# Altium integrated library NSC LDO.IntLib: 1228 symbols (part 22 of 28)
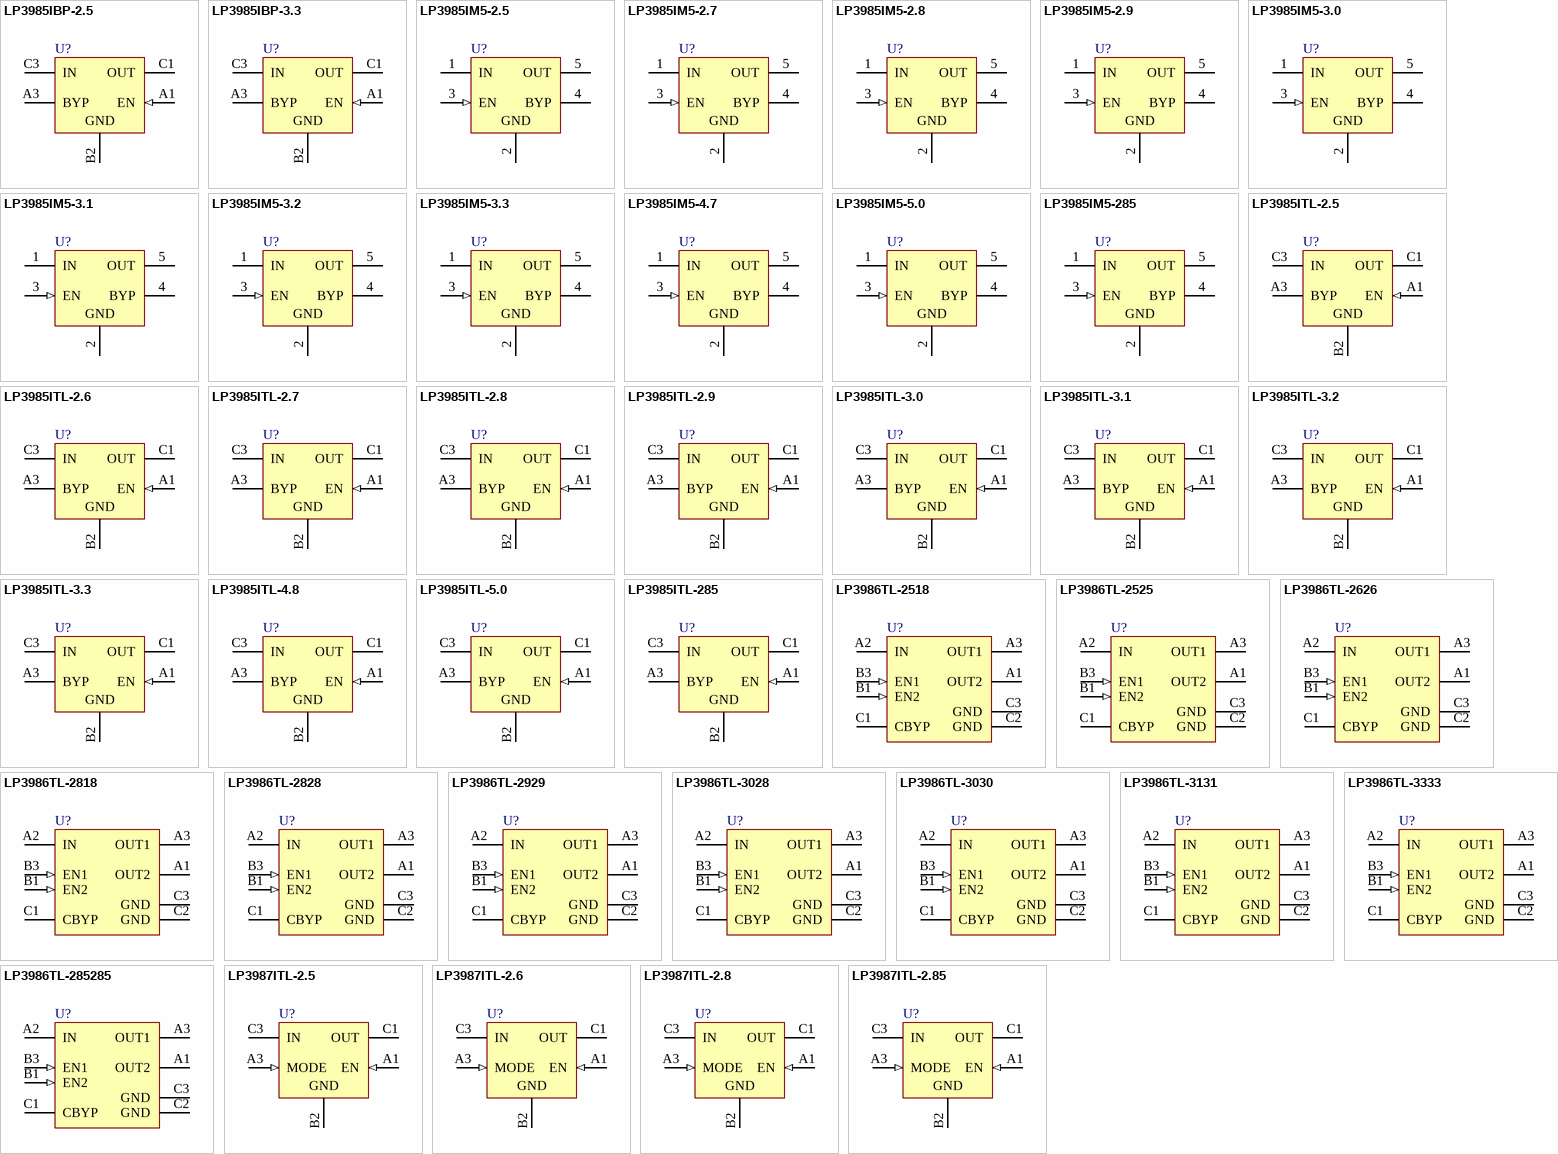
[diagram p51: symbols LP3985IBP-2.5 to LP3987ITL-2.85]

## LP3985ITL-2.9
designator U?
Micropower, 150mA Low-Noise Ultra Low-Dropout CMOS Voltage Regulator; PartNumber: LP3985ITL-2.9; Manufacturer: National Semiconductor; CompType: LDO IC; PackageTopMarking: XV*I 5; Published: 4-Dec-2008; DatasheetVersion: Aug-2005; PackageVersion: revC, Feb-2005; PackageReference: TLA05AEA; Publisher: Altium Limited; PackageDescription: Thin Micro SMD, 5 Bump (Large), 0.5mm Pitch; RoHS: Y; PinCount: 5; DigiKeyPartNumber: LP3985ITL-2.9CT-ND; ComponentLink1Description: LP3985 Datasheet; ComponentLink1URL: http://www.national.com/ds/LP/LP3985.pdf; ComponentLink2Description: LP3985 Web Page; ComponentLink2URL: http://www.national.com/pf/LP/LP3985.html; ComponentLink3Description: TLA05AEA Package Page; ComponentLink3URL: http://www.national.com/packaging/folders/tla05aea.html
footprint TLA05AEA (Micro SMD, 5-Leads, Body 1.45x1.01mm, Pitch 0.5mm, NSC Recommended)
pins: A1 EN (in), A3 BYP, B2 GND (power), C1 OUT (power), C3 IN (power)

## LP3985ITL-3.0
designator U?
Micropower, 150mA Low-Noise Ultra Low-Dropout CMOS Voltage Regulator; PartNumber: LP3985ITL-3.0; Manufacturer: National Semiconductor; CompType: LDO IC; PackageTopMarking: XV*I 5; Published: 4-Dec-2008; DatasheetVersion: Aug-2005; PackageVersion: revC, Feb-2005; PackageReference: TLA05AEA; Publisher: Altium Limited; PackageDescription: Thin Micro SMD, 5 Bump (Large), 0.5mm Pitch; RoHS: Y; PinCount: 5; DigiKeyPartNumber: LP3985ITL-3.0CT-ND; ComponentLink1Description: LP3985 Datasheet; ComponentLink1URL: http://www.national.com/ds/LP/LP3985.pdf; ComponentLink2Description: LP3985 Web Page; ComponentLink2URL: http://www.national.com/pf/LP/LP3985.html; ComponentLink3Description: TLA05AEA Package Page; ComponentLink3URL: http://www.national.com/packaging/folders/tla05aea.html
footprint TLA05AEA (Micro SMD, 5-Leads, Body 1.45x1.01mm, Pitch 0.5mm, NSC Recommended)
pins: A1 EN (in), A3 BYP, B2 GND (power), C1 OUT (power), C3 IN (power)

## LP3985ITL-3.1
designator U?
Micropower, 150mA Low-Noise Ultra Low-Dropout CMOS Voltage Regulator; PartNumber: LP3985ITL-3.1; Manufacturer: National Semiconductor; CompType: LDO IC; PackageTopMarking: XV*I 5; Published: 4-Dec-2008; DatasheetVersion: Aug-2005; PackageVersion: revC, Feb-2005; PackageReference: TLA05AEA; Publisher: Altium Limited; PackageDescription: Thin Micro SMD, 5 Bump (Large), 0.5mm Pitch; RoHS: Y; PinCount: 5; DigiKeyPartNumber: LP3985ITL-3.1CT-ND; ComponentLink1Description: LP3985 Datasheet; ComponentLink1URL: http://www.national.com/ds/LP/LP3985.pdf; ComponentLink2Description: LP3985 Web Page; ComponentLink2URL: http://www.national.com/pf/LP/LP3985.html; ComponentLink3Description: TLA05AEA Package Page; ComponentLink3URL: http://www.national.com/packaging/folders/tla05aea.html
footprint TLA05AEA (Micro SMD, 5-Leads, Body 1.45x1.01mm, Pitch 0.5mm, NSC Recommended)
pins: A1 EN (in), A3 BYP, B2 GND (power), C1 OUT (power), C3 IN (power)

## LP3985ITL-3.2
designator U?
Micropower, 150mA Low-Noise Ultra Low-Dropout CMOS Voltage Regulator; PartNumber: LP3985ITL-3.2; Manufacturer: National Semiconductor; CompType: LDO IC; PackageTopMarking: XV*I 5; Published: 4-Dec-2008; DatasheetVersion: Aug-2005; PackageVersion: revC, Feb-2005; PackageReference: TLA05AEA; Publisher: Altium Limited; PackageDescription: Thin Micro SMD, 5 Bump (Large), 0.5mm Pitch; RoHS: Y; PinCount: 5; DigiKeyPartNumber: LP3985ITL-3.2CT-ND; ComponentLink1Description: LP3985 Datasheet; ComponentLink1URL: http://www.national.com/ds/LP/LP3985.pdf; ComponentLink2Description: LP3985 Web Page; ComponentLink2URL: http://www.national.com/pf/LP/LP3985.html; ComponentLink3Description: TLA05AEA Package Page; ComponentLink3URL: http://www.national.com/packaging/folders/tla05aea.html
footprint TLA05AEA (Micro SMD, 5-Leads, Body 1.45x1.01mm, Pitch 0.5mm, NSC Recommended)
pins: A1 EN (in), A3 BYP, B2 GND (power), C1 OUT (power), C3 IN (power)

## LP3985ITL-3.3
designator U?
Micropower, 150mA Low-Noise Ultra Low-Dropout CMOS Voltage Regulator; PartNumber: LP3985ITL-3.3; Manufacturer: National Semiconductor; CompType: LDO IC; PackageTopMarking: XV*I 5; Published: 4-Dec-2008; DatasheetVersion: Aug-2005; PackageVersion: revC, Feb-2005; PackageReference: TLA05AEA; Publisher: Altium Limited; PackageDescription: Thin Micro SMD, 5 Bump (Large), 0.5mm Pitch; RoHS: Y; PinCount: 5; DigiKeyPartNumber: LP3985ITL-3.3CT-ND; ComponentLink1Description: LP3985 Datasheet; ComponentLink1URL: http://www.national.com/ds/LP/LP3985.pdf; ComponentLink2Description: LP3985 Web Page; ComponentLink2URL: http://www.national.com/pf/LP/LP3985.html; ComponentLink3Description: TLA05AEA Package Page; ComponentLink3URL: http://www.national.com/packaging/folders/tla05aea.html
footprint TLA05AEA (Micro SMD, 5-Leads, Body 1.45x1.01mm, Pitch 0.5mm, NSC Recommended)
pins: A1 EN (in), A3 BYP, B2 GND (power), C1 OUT (power), C3 IN (power)

## LP3985ITL-4.8
designator U?
Micropower, 150mA Low-Noise Ultra Low-Dropout CMOS Voltage Regulator; PartNumber: LP3985ITL-4.8; Manufacturer: National Semiconductor; CompType: LDO IC; PackageTopMarking: XV*I 5; Published: 4-Dec-2008; DatasheetVersion: Aug-2005; PackageVersion: revC, Feb-2005; PackageReference: TLA05AEA; Publisher: Altium Limited; PackageDescription: Thin Micro SMD, 5 Bump (Large), 0.5mm Pitch; RoHS: Y; PinCount: 5; DigiKeyPartNumber: LP3985ITL-4.8CT-ND; ComponentLink1Description: LP3985 Datasheet; ComponentLink1URL: http://www.national.com/ds/LP/LP3985.pdf; ComponentLink2Description: LP3985 Web Page; ComponentLink2URL: http://www.national.com/pf/LP/LP3985.html; ComponentLink3Description: TLA05AEA Package Page; ComponentLink3URL: http://www.national.com/packaging/folders/tla05aea.html
footprint TLA05AEA (Micro SMD, 5-Leads, Body 1.45x1.01mm, Pitch 0.5mm, NSC Recommended)
pins: A1 EN (in), A3 BYP, B2 GND (power), C1 OUT (power), C3 IN (power)

## LP3985ITL-5.0
designator U?
Micropower, 150mA Low-Noise Ultra Low-Dropout CMOS Voltage Regulator; PartNumber: LP3985ITL-5.0; Manufacturer: National Semiconductor; CompType: LDO IC; PackageTopMarking: XV*I 5; Published: 4-Dec-2008; DatasheetVersion: Aug-2005; PackageVersion: revC, Feb-2005; PackageReference: TLA05AEA; Publisher: Altium Limited; PackageDescription: Thin Micro SMD, 5 Bump (Large), 0.5mm Pitch; RoHS: O; PinCount: 5; DigiKeyPartNumber: LP3985ITL-5.0CT-ND; ComponentLink1Description: LP3985 Datasheet; ComponentLink1URL: http://www.national.com/ds/LP/LP3985.pdf; ComponentLink2Description: LP3985 Web Page; ComponentLink2URL: http://www.national.com/pf/LP/LP3985.html; ComponentLink3Description: TLA05AEA Package Page; ComponentLink3URL: http://www.national.com/packaging/folders/tla05aea.html
footprint TLA05AEA (Micro SMD, 5-Leads, Body 1.45x1.01mm, Pitch 0.5mm, NSC Recommended)
pins: A1 EN (in), A3 BYP, B2 GND (power), C1 OUT (power), C3 IN (power)

## LP3985ITL-285
designator U?
Micropower, 150mA Low-Noise Ultra Low-Dropout CMOS Voltage Regulator; PartNumber: LP3985ITL-285; Manufacturer: National Semiconductor; CompType: LDO IC; PackageTopMarking: XV*I 5; Published: 4-Dec-2008; DatasheetVersion: Aug-2005; PackageVersion: revC, Feb-2005; PackageReference: TLA05AEA; Publisher: Altium Limited; PackageDescription: Thin Micro SMD, 5 Bump (Large), 0.5mm Pitch; RoHS: Y; PinCount: 5; DigiKeyPartNumber: LP3985ITL-285CT-ND; ComponentLink1Description: LP3985 Datasheet; ComponentLink1URL: http://www.national.com/ds/LP/LP3985.pdf; ComponentLink2Description: LP3985 Web Page; ComponentLink2URL: http://www.national.com/pf/LP/LP3985.html; ComponentLink3Description: TLA05AEA Package Page; ComponentLink3URL: http://www.national.com/packaging/folders/tla05aea.html
footprint TLA05AEA (Micro SMD, 5-Leads, Body 1.45x1.01mm, Pitch 0.5mm, NSC Recommended)
pins: A1 EN (in), A3 BYP, B2 GND (power), C1 OUT (power), C3 IN (power)

## LP3986TL-2518
designator U?
Dual Micropower 150 mA Ultra Low-Dropout CMOS Voltage Regulators in micro SMD Package; PartNumber: LP3986TL-2518; Manufacturer: National Semiconductor; CompType: LDO IC; PackageTopMarking: XVD*I 30; PowerWise: N; Published: 4-Dec-2008; DatasheetVersion: Feb-2007; PackageVersion: revC, Jan-2004; PackageReference: TLA08CCA; Publisher: Altium Limited; PackageDescription: Thin Micro SMD, 8 Bump (Large), 0.5mm Pitch; RoHS: Y; PinCount: 8; DigiKeyPartNumber: LP3986TL-2518CT-ND; Code_JEDEC: MO-211-DD; ComponentLink1Description: LP3986 Datasheet; ComponentLink1URL: http://www.national.com/ds/LP/LP3986.pdf; ComponentLink2Description: LP3986 Web Page; ComponentLink2URL: http://www.national.com/pf/LP/LP3986.html; ComponentLink3Description: TLA08CCA Package Page; ComponentLink3URL: http://www.national.com/packaging/folders/tla08cca.html
footprint TLA08CCA (Micro SMD, 8-Leads, Body 1.57x1.57mm, Pitch 0.5mm, NSC Recommended)
pins: A1 OUT2 (power), A2 IN (power), A3 OUT1 (power), B1 EN2 (in), B3 EN1 (in), C1 CBYP, C2 GND (power), C3 GND (power)

## LP3986TL-2525
designator U?
Dual Micropower 150 mA Ultra Low-Dropout CMOS Voltage Regulators in micro SMD Package; PartNumber: LP3986TL-2525; Manufacturer: National Semiconductor; CompType: LDO IC; PackageTopMarking: XVD*I 27; PowerWise: N; Published: 4-Dec-2008; DatasheetVersion: Feb-2007; PackageVersion: revC, Jan-2004; PackageReference: TLA08CCA; Publisher: Altium Limited; PackageDescription: Thin Micro SMD, 8 Bump (Large), 0.5mm Pitch; RoHS: Y; PinCount: 8; DigiKeyPartNumber: LP3986TL-2525CT-ND; Code_JEDEC: MO-211-DD; ComponentLink1Description: LP3986 Datasheet; ComponentLink1URL: http://www.national.com/ds/LP/LP3986.pdf; ComponentLink2Description: LP3986 Web Page; ComponentLink2URL: http://www.national.com/pf/LP/LP3986.html; ComponentLink3Description: TLA08CCA Package Page; ComponentLink3URL: http://www.national.com/packaging/folders/tla08cca.html
footprint TLA08CCA (Micro SMD, 8-Leads, Body 1.57x1.57mm, Pitch 0.5mm, NSC Recommended)
pins: A1 OUT2 (power), A2 IN (power), A3 OUT1 (power), B1 EN2 (in), B3 EN1 (in), C1 CBYP, C2 GND (power), C3 GND (power)

## LP3986TL-2626
designator U?
Dual Micropower 150 mA Ultra Low-Dropout CMOS Voltage Regulators in micro SMD Package; PartNumber: LP3986TL-2626; Manufacturer: National Semiconductor; CompType: LDO IC; PackageTopMarking: XVD*I 28; PowerWise: N; Published: 4-Dec-2008; DatasheetVersion: Feb-2007; PackageVersion: revC, Jan-2004; PackageReference: TLA08CCA; Publisher: Altium Limited; PackageDescription: Thin Micro SMD, 8 Bump (Large), 0.5mm Pitch; RoHS: Y; PinCount: 8; DigiKeyPartNumber: LP3986TL-2626CT-ND; Code_JEDEC: MO-211-DD; ComponentLink1Description: LP3986 Datasheet; ComponentLink1URL: http://www.national.com/ds/LP/LP3986.pdf; ComponentLink2Description: LP3986 Web Page; ComponentLink2URL: http://www.national.com/pf/LP/LP3986.html; ComponentLink3Description: TLA08CCA Package Page; ComponentLink3URL: http://www.national.com/packaging/folders/tla08cca.html
footprint TLA08CCA (Micro SMD, 8-Leads, Body 1.57x1.57mm, Pitch 0.5mm, NSC Recommended)
pins: A1 OUT2 (power), A2 IN (power), A3 OUT1 (power), B1 EN2 (in), B3 EN1 (in), C1 CBYP, C2 GND (power), C3 GND (power)

## LP3986TL-2818
designator U?
Dual Micropower 150 mA Ultra Low-Dropout CMOS Voltage Regulators in micro SMD Package; PartNumber: LP3986TL-2818; Manufacturer: National Semiconductor; CompType: LDO IC; PackageTopMarking: XVD*I 25; PowerWise: N; Published: 4-Dec-2008; DatasheetVersion: Feb-2007; PackageVersion: revC, Jan-2004; PackageReference: TLA08CCA; Publisher: Altium Limited; PackageDescription: Thin Micro SMD, 8 Bump (Large), 0.5mm Pitch; RoHS: Y; PinCount: 8; DigiKeyPartNumber: LP3986TL-2818CT-ND; Code_JEDEC: MO-211-DD; ComponentLink1Description: LP3986 Datasheet; ComponentLink1URL: http://www.national.com/ds/LP/LP3986.pdf; ComponentLink2Description: LP3986 Web Page; ComponentLink2URL: http://www.national.com/pf/LP/LP3986.html; ComponentLink3Description: TLA08CCA Package Page; ComponentLink3URL: http://www.national.com/packaging/folders/tla08cca.html
footprint TLA08CCA (Micro SMD, 8-Leads, Body 1.57x1.57mm, Pitch 0.5mm, NSC Recommended)
pins: A1 OUT2 (power), A2 IN (power), A3 OUT1 (power), B1 EN2 (in), B3 EN1 (in), C1 CBYP, C2 GND (power), C3 GND (power)

## LP3986TL-2828
designator U?
Dual Micropower 150 mA Ultra Low-Dropout CMOS Voltage Regulators in micro SMD Package; PartNumber: LP3986TL-2828; Manufacturer: National Semiconductor; CompType: LDO IC; PackageTopMarking: XVD*I 10; PowerWise: N; Published: 4-Dec-2008; DatasheetVersion: Feb-2007; PackageVersion: revC, Jan-2004; PackageReference: TLA08CCA; Publisher: Altium Limited; PackageDescription: Thin Micro SMD, 8 Bump (Large), 0.5mm Pitch; RoHS: Y; PinCount: 8; DigiKeyPartNumber: LP3986TL-2828CT-ND; Code_JEDEC: MO-211-DD; ComponentLink1Description: LP3986 Datasheet; ComponentLink1URL: http://www.national.com/ds/LP/LP3986.pdf; ComponentLink2Description: LP3986 Web Page; ComponentLink2URL: http://www.national.com/pf/LP/LP3986.html; ComponentLink3Description: TLA08CCA Package Page; ComponentLink3URL: http://www.national.com/packaging/folders/tla08cca.html
footprint TLA08CCA (Micro SMD, 8-Leads, Body 1.57x1.57mm, Pitch 0.5mm, NSC Recommended)
pins: A1 OUT2 (power), A2 IN (power), A3 OUT1 (power), B1 EN2 (in), B3 EN1 (in), C1 CBYP, C2 GND (power), C3 GND (power)

## LP3986TL-2929
designator U?
Dual Micropower 150 mA Ultra Low-Dropout CMOS Voltage Regulators in micro SMD Package; PartNumber: LP3986TL-2929; Manufacturer: National Semiconductor; CompType: LDO IC; PackageTopMarking: XVD*I 15; PowerWise: N; Published: 4-Dec-2008; DatasheetVersion: Feb-2007; PackageVersion: revC, Jan-2004; PackageReference: TLA08CCA; Publisher: Altium Limited; PackageDescription: Thin Micro SMD, 8 Bump (Large), 0.5mm Pitch; RoHS: Y; PinCount: 8; DigiKeyPartNumber: LP3986TL-2929CT-ND; Code_JEDEC: MO-211-DD; ComponentLink1Description: LP3986 Datasheet; ComponentLink1URL: http://www.national.com/ds/LP/LP3986.pdf; ComponentLink2Description: LP3986 Web Page; ComponentLink2URL: http://www.national.com/pf/LP/LP3986.html; ComponentLink3Description: TLA08CCA Package Page; ComponentLink3URL: http://www.national.com/packaging/folders/tla08cca.html
footprint TLA08CCA (Micro SMD, 8-Leads, Body 1.57x1.57mm, Pitch 0.5mm, NSC Recommended)
pins: A1 OUT2 (power), A2 IN (power), A3 OUT1 (power), B1 EN2 (in), B3 EN1 (in), C1 CBYP, C2 GND (power), C3 GND (power)

## LP3986TL-3028
designator U?
Dual Micropower 150 mA Ultra Low-Dropout CMOS Voltage Regulators in micro SMD Package; PartNumber: LP3986TL-3028; Manufacturer: National Semiconductor; CompType: LDO IC; PackageTopMarking: XVD*I 26; PowerWise: N; Published: 4-Dec-2008; DatasheetVersion: Feb-2007; PackageVersion: revC, Jan-2004; PackageReference: TLA08CCA; Publisher: Altium Limited; PackageDescription: Thin Micro SMD, 8 Bump (Large), 0.5mm Pitch; RoHS: Y; PinCount: 8; DigiKeyPartNumber: LP3986TL-3028CT-ND; Code_JEDEC: MO-211-DD; ComponentLink1Description: LP3986 Datasheet; ComponentLink1URL: http://www.national.com/ds/LP/LP3986.pdf; ComponentLink2Description: LP3986 Web Page; ComponentLink2URL: http://www.national.com/pf/LP/LP3986.html; ComponentLink3Description: TLA08CCA Package Page; ComponentLink3URL: http://www.national.com/packaging/folders/tla08cca.html
footprint TLA08CCA (Micro SMD, 8-Leads, Body 1.57x1.57mm, Pitch 0.5mm, NSC Recommended)
pins: A1 OUT2 (power), A2 IN (power), A3 OUT1 (power), B1 EN2 (in), B3 EN1 (in), C1 CBYP, C2 GND (power), C3 GND (power)

## LP3986TL-3030
designator U?
Dual Micropower 150 mA Ultra Low-Dropout CMOS Voltage Regulators in micro SMD Package; PartNumber: LP3986TL-3030; Manufacturer: National Semiconductor; CompType: LDO IC; PackageTopMarking: XVD*I 12; PowerWise: N; Published: 4-Dec-2008; DatasheetVersion: Feb-2007; PackageVersion: revC, Jan-2004; PackageReference: TLA08CCA; Publisher: Altium Limited; PackageDescription: Thin Micro SMD, 8 Bump (Large), 0.5mm Pitch; RoHS: Y; PinCount: 8; DigiKeyPartNumber: LP3986TL-3030CT-ND; Code_JEDEC: MO-211-DD; ComponentLink1Description: LP3986 Datasheet; ComponentLink1URL: http://www.national.com/ds/LP/LP3986.pdf; ComponentLink2Description: LP3986 Web Page; ComponentLink2URL: http://www.national.com/pf/LP/LP3986.html; ComponentLink3Description: TLA08CCA Package Page; ComponentLink3URL: http://www.national.com/packaging/folders/tla08cca.html
footprint TLA08CCA (Micro SMD, 8-Leads, Body 1.57x1.57mm, Pitch 0.5mm, NSC Recommended)
pins: A1 OUT2 (power), A2 IN (power), A3 OUT1 (power), B1 EN2 (in), B3 EN1 (in), C1 CBYP, C2 GND (power), C3 GND (power)

## LP3986TL-3131
designator U?
Dual Micropower 150 mA Ultra Low-Dropout CMOS Voltage Regulators in micro SMD Package; PartNumber: LP3986TL-3131; Manufacturer: National Semiconductor; CompType: LDO IC; PackageTopMarking: XVD*I 13; PowerWise: N; Published: 4-Dec-2008; DatasheetVersion: Feb-2007; PackageVersion: revC, Jan-2004; PackageReference: TLA08CCA; Publisher: Altium Limited; PackageDescription: Thin Micro SMD, 8 Bump (Large), 0.5mm Pitch; RoHS: Y; PinCount: 8; DigiKeyPartNumber: LP3986TL-3131CT-ND; Code_JEDEC: MO-211-DD; ComponentLink1Description: LP3986 Datasheet; ComponentLink1URL: http://www.national.com/ds/LP/LP3986.pdf; ComponentLink2Description: LP3986 Web Page; ComponentLink2URL: http://www.national.com/pf/LP/LP3986.html; ComponentLink3Description: TLA08CCA Package Page; ComponentLink3URL: http://www.national.com/packaging/folders/tla08cca.html
footprint TLA08CCA (Micro SMD, 8-Leads, Body 1.57x1.57mm, Pitch 0.5mm, NSC Recommended)
pins: A1 OUT2 (power), A2 IN (power), A3 OUT1 (power), B1 EN2 (in), B3 EN1 (in), C1 CBYP, C2 GND (power), C3 GND (power)

## LP3986TL-3333
designator U?
Dual Micropower 150 mA Ultra Low-Dropout CMOS Voltage Regulators in micro SMD Package; PartNumber: LP3986TL-3333; Manufacturer: National Semiconductor; CompType: LDO IC; PackageTopMarking: XVD*I 17; PowerWise: N; Published: 4-Dec-2008; DatasheetVersion: Feb-2007; PackageVersion: revC, Jan-2004; PackageReference: TLA08CCA; Publisher: Altium Limited; PackageDescription: Thin Micro SMD, 8 Bump (Large), 0.5mm Pitch; RoHS: Y; PinCount: 8; DigiKeyPartNumber: LP3986TL-3333CT-ND; Code_JEDEC: MO-211-DD; ComponentLink1Description: LP3986 Datasheet; ComponentLink1URL: http://www.national.com/ds/LP/LP3986.pdf; ComponentLink2Description: LP3986 Web Page; ComponentLink2URL: http://www.national.com/pf/LP/LP3986.html; ComponentLink3Description: TLA08CCA Package Page; ComponentLink3URL: http://www.national.com/packaging/folders/tla08cca.html
footprint TLA08CCA (Micro SMD, 8-Leads, Body 1.57x1.57mm, Pitch 0.5mm, NSC Recommended)
pins: A1 OUT2 (power), A2 IN (power), A3 OUT1 (power), B1 EN2 (in), B3 EN1 (in), C1 CBYP, C2 GND (power), C3 GND (power)

## LP3986TL-285285
designator U?
Dual Micropower 150 mA Ultra Low-Dropout CMOS Voltage Regulators in micro SMD Package; PartNumber: LP3986TL-285285; Manufacturer: National Semiconductor; CompType: LDO IC; PackageTopMarking: XVD*I 11; PowerWise: N; Published: 4-Dec-2008; DatasheetVersion: Feb-2007; PackageVersion: revC, Jan-2004; PackageReference: TLA08CCA; Publisher: Altium Limited; PackageDescription: Thin Micro SMD, 8 Bump (Large), 0.5mm Pitch; RoHS: Y; PinCount: 8; DigiKeyPartNumber: LP3986TL-285285CT-ND; Code_JEDEC: MO-211-DD; ComponentLink1Description: LP3986 Datasheet; ComponentLink1URL: http://www.national.com/ds/LP/LP3986.pdf; ComponentLink2Description: LP3986 Web Page; ComponentLink2URL: http://www.national.com/pf/LP/LP3986.html; ComponentLink3Description: TLA08CCA Package Page; ComponentLink3URL: http://www.national.com/packaging/folders/tla08cca.html
footprint TLA08CCA (Micro SMD, 8-Leads, Body 1.57x1.57mm, Pitch 0.5mm, NSC Recommended)
pins: A1 OUT2 (power), A2 IN (power), A3 OUT1 (power), B1 EN2 (in), B3 EN1 (in), C1 CBYP, C2 GND (power), C3 GND (power)

## LP3987ITL-2.5
designator U?
Micropower micro SMD 150 mA Ultra Low-Dropout CMOS Voltage Regulators with Sleep MODE; PartNumber: LP3987ITL-2.5; Manufacturer: National Semiconductor; CompType: LDO IC; PackageTopMarking: XV*I 7; PowerWise: N; Published: 4-Dec-2008; DatasheetVersion: Feb-2007; PackageVersion: revC, Feb-2005; PackageReference: TLA05AEA; Publisher: Altium Limited; PackageDescription: Thin Micro SMD, 5 Bump (Large), 0.5mm Pitch; RoHS: O; PinCount: 5; DigiKeyPartNumber: LP3987ITL-2.5CT-ND; ComponentLink1Description: LP3987 Datasheet; ComponentLink1URL: http://www.national.com/ds/LP/LP3987.pdf; ComponentLink2Description: LP3987 Web Page; ComponentLink2URL: http://www.national.com/pf/LP/LP3987.html; ComponentLink3Description: TLA05AEA Package Page; ComponentLink3URL: http://www.national.com/packaging/folders/tla05aea.html
footprint TLA05AEA (Micro SMD, 5-Leads, Body 1.45x1.01mm, Pitch 0.5mm, NSC Recommended)
pins: A1 EN (in), A3 MODE (in), B2 GND (power), C1 OUT (power), C3 IN (power)

## LP3987ITL-2.6
designator U?
Micropower micro SMD 150 mA Ultra Low-Dropout CMOS Voltage Regulators with Sleep MODE; PartNumber: LP3987ITL-2.6; Manufacturer: National Semiconductor; CompType: LDO IC; PackageTopMarking: XV*I 7; Published: 4-Dec-2008; DatasheetVersion: Feb-2007; PackageVersion: revC, Feb-2005; PackageReference: TLA05AEA; Publisher: Altium Limited; PackageDescription: Thin Micro SMD, 5 Bump (Large), 0.5mm Pitch; RoHS: O; PinCount: 5; DigiKeyPartNumber: LP3987ITL-2.6CT-ND; ComponentLink1Description: LP3987 Datasheet; ComponentLink1URL: http://www.national.com/ds/LP/LP3987.pdf; ComponentLink2Description: LP3987 Web Page; ComponentLink2URL: http://www.national.com/pf/LP/LP3987.html; ComponentLink3Description: TLA05AEA Package Page; ComponentLink3URL: http://www.national.com/packaging/folders/tla05aea.html
footprint TLA05AEA (Micro SMD, 5-Leads, Body 1.45x1.01mm, Pitch 0.5mm, NSC Recommended)
pins: A1 EN (in), A3 MODE (in), B2 GND (power), C1 OUT (power), C3 IN (power)

## LP3987ITL-2.8
designator U?
Micropower micro SMD 150 mA Ultra Low-Dropout CMOS Voltage Regulators with Sleep MODE; PartNumber: LP3987ITL-2.8; Manufacturer: National Semiconductor; CompType: LDO IC; PackageTopMarking: XV*I 7; Published: 4-Dec-2008; DatasheetVersion: Feb-2007; PackageVersion: revC, Feb-2005; PackageReference: TLA05AEA; Publisher: Altium Limited; PackageDescription: Thin Micro SMD, 5 Bump (Large), 0.5mm Pitch; RoHS: O; PinCount: 5; DigiKeyPartNumber: LP3987ITL-2.8CT-ND; ComponentLink1Description: LP3987 Datasheet; ComponentLink1URL: http://www.national.com/ds/LP/LP3987.pdf; ComponentLink2Description: LP3987 Web Page; ComponentLink2URL: http://www.national.com/pf/LP/LP3987.html; ComponentLink3Description: TLA05AEA Package Page; ComponentLink3URL: http://www.national.com/packaging/folders/tla05aea.html
footprint TLA05AEA (Micro SMD, 5-Leads, Body 1.45x1.01mm, Pitch 0.5mm, NSC Recommended)
pins: A1 EN (in), A3 MODE (in), B2 GND (power), C1 OUT (power), C3 IN (power)

## LP3987ITL-2.85
designator U?
Micropower micro SMD 150 mA Ultra Low-Dropout CMOS Voltage Regulators with Sleep MODE; PartNumber: LP3987ITL-2.85; Manufacturer: National Semiconductor; CompType: LDO IC; PackageTopMarking: XV*I 7; Published: 4-Dec-2008; DatasheetVersion: Feb-2007; PackageVersion: revC, Feb-2005; PackageReference: TLA05AEA; Publisher: Altium Limited; PackageDescription: Thin Micro SMD, 5 Bump (Large), 0.5mm Pitch; RoHS: Y; PinCount: 5; DigiKeyPartNumber: LP3987ITL-2.85CT-ND; ComponentLink1Description: LP3987 Datasheet; ComponentLink1URL: http://www.national.com/ds/LP/LP3987.pdf; ComponentLink2Description: LP3987 Web Page; ComponentLink2URL: http://www.national.com/pf/LP/LP3987.html; ComponentLink3Description: TLA05AEA Package Page; ComponentLink3URL: http://www.national.com/packaging/folders/tla05aea.html
footprint TLA05AEA (Micro SMD, 5-Leads, Body 1.45x1.01mm, Pitch 0.5mm, NSC Recommended)
pins: A1 EN (in), A3 MODE (in), B2 GND (power), C1 OUT (power), C3 IN (power)

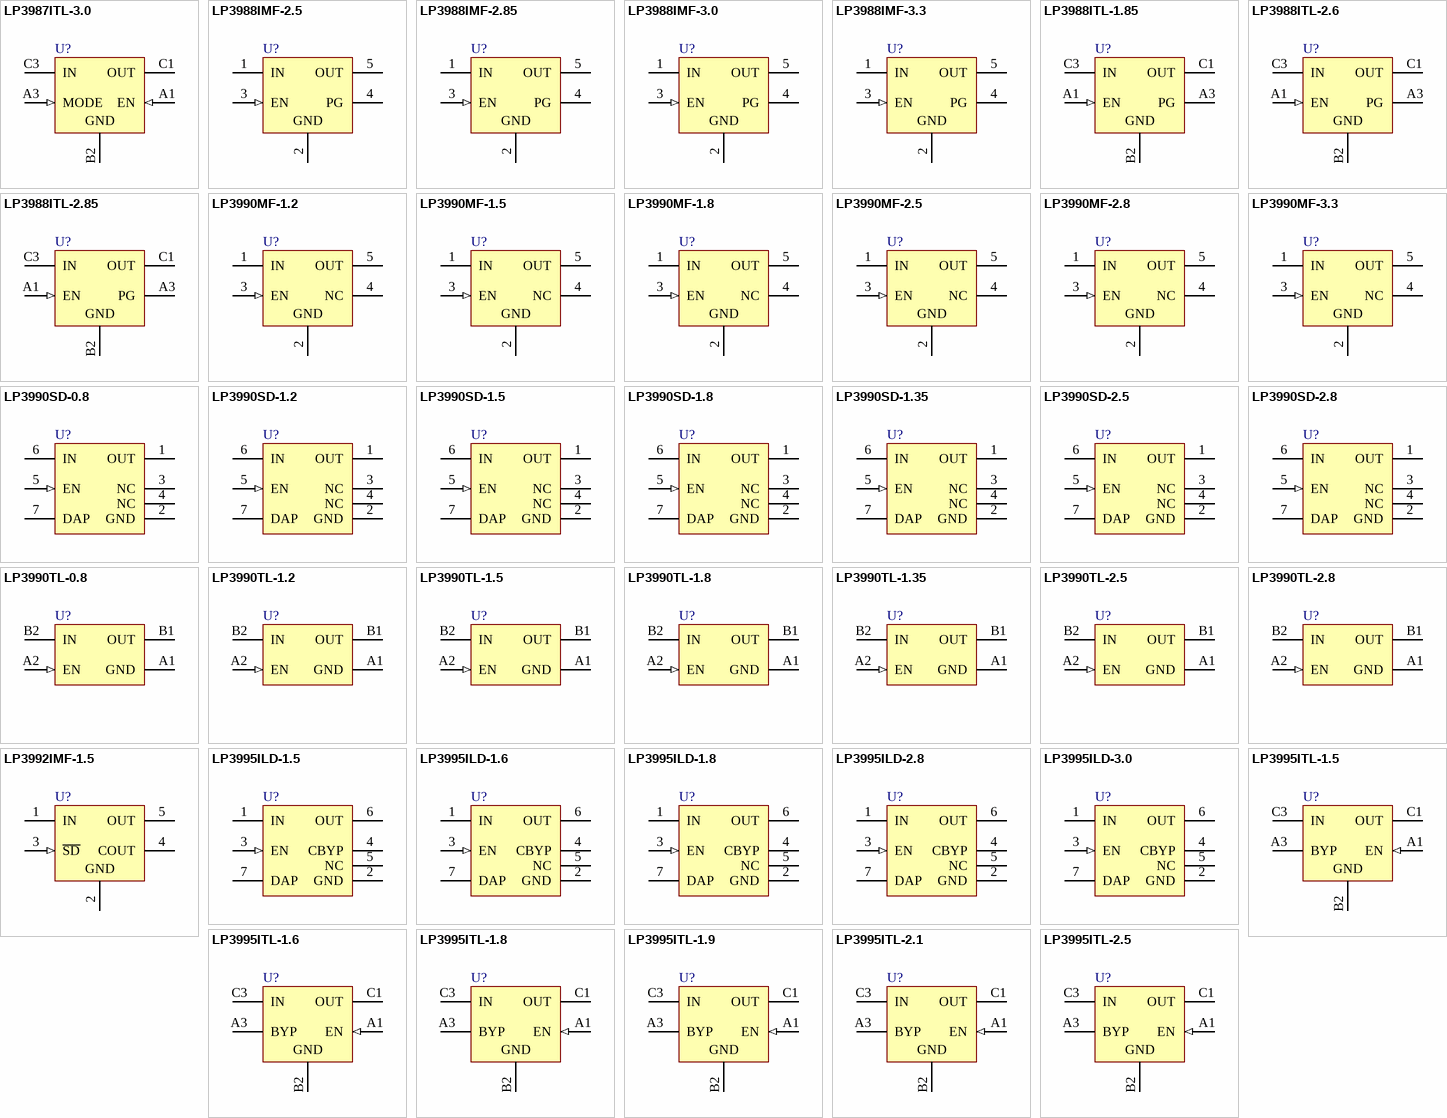
[diagram p24: symbols LP3987ITL-3.0 to LP3995ITL-2.5]

## LP3987ITL-3.0
designator U?
Micropower micro SMD 150 mA Ultra Low-Dropout CMOS Voltage Regulators with Sleep MODE; PartNumber: LP3987ITL-3.0; Manufacturer: National Semiconductor; CompType: LDO IC; PackageTopMarking: XV*I 7; Published: 4-Dec-2008; DatasheetVersion: Feb-2007; PackageVersion: revC, Feb-2005; PackageReference: TLA05AEA; Publisher: Altium Limited; PackageDescription: Thin Micro SMD, 5 Bump (Large), 0.5mm Pitch; RoHS: Y; PinCount: 5; DigiKeyPartNumber: LP3987ITL-3.0CT-ND; ComponentLink1Description: LP3987 Datasheet; ComponentLink1URL: http://www.national.com/ds/LP/LP3987.pdf; ComponentLink2Description: LP3987 Web Page; ComponentLink2URL: http://www.national.com/pf/LP/LP3987.html; ComponentLink3Description: TLA05AEA Package Page; ComponentLink3URL: http://www.national.com/packaging/folders/tla05aea.html
footprint TLA05AEA (Micro SMD, 5-Leads, Body 1.45x1.01mm, Pitch 0.5mm, NSC Recommended)
pins: A1 EN (in), A3 MODE (in), B2 GND (power), C1 OUT (power), C3 IN (power)

## LP3988IMF-2.5
designator U?
Micropower, 150mA Ultra Low-Dropout CMOS Voltage Regulator With Power Good; PartNumber: LP3988IMF-2.5; Manufacturer: National Semiconductor; CompType: LDO IC; PackageTopMarking: LFSB*XTT; PowerWise: N; Published: 4-Dec-2008; DatasheetVersion: Aug-2004; PackageVersion: revD, Aug-2008; PackageReference: MF05A; Publisher: Altium Limited; PackageDescription: Molded SOT-23, .115 x .063 x .040 in Body, 5 Lead, .0375 in Pitch; RoHS: O; PinCount: 5; DigiKeyPartNumber: LP3988IMF-2.5CT-ND; ComponentLink1Description: LP3988 Datasheet; ComponentLink1URL: http://www.national.com/ds/LP/LP3988.pdf; ComponentLink2Description: LP3988 Web Page; ComponentLink2URL: http://www.national.com/pf/LP/LP3988.html; ComponentLink3Description: MF05A Package Page; ComponentLink3URL: http://www.national.com/packaging/folders/mf05a.html
footprint MF05A_N (SOT23, 5-Leads, Body 2.9x1.6mm, Pitch 0.95mm, Lead Span 2.8mm, IPC Medium Density)
footprint MF05A_L (SOT23, 5-Leads, Body 2.9x1.6mm, Pitch 0.95mm, Lead Span 2.8mm, IPC High Density)
footprint MF05A_M (SOT23, 5-Leads, Body 2.9x1.6mm, Pitch 0.95mm, Lead Span 2.8mm, IPC Low Density)
pins: 1 IN (power), 2 GND (power), 3 EN (in), 4 PG (oc), 5 OUT (power)

## LP3988IMF-2.85
designator U?
Micropower, 150mA Ultra Low-Dropout CMOS Voltage Regulator With Power Good; PartNumber: LP3988IMF-2.85; Manufacturer: National Semiconductor; CompType: LDO IC; PackageTopMarking: LDLB*XTT; Published: 4-Dec-2008; DatasheetVersion: Aug-2004; PackageVersion: revD, Aug-2008; PackageReference: MF05A; Publisher: Altium Limited; PackageDescription: Molded SOT-23, .115 x .063 x .040 in Body, 5 Lead, .0375 in Pitch; RoHS: Y; PinCount: 5; DigiKeyPartNumber: LP3988IMF-2.85CT-ND; ComponentLink1Description: LP3988 Datasheet; ComponentLink1URL: http://www.national.com/ds/LP/LP3988.pdf; ComponentLink2Description: LP3988 Web Page; ComponentLink2URL: http://www.national.com/pf/LP/LP3988.html; ComponentLink3Description: MF05A Package Page; ComponentLink3URL: http://www.national.com/packaging/folders/mf05a.html
footprint MF05A_N (SOT23, 5-Leads, Body 2.9x1.6mm, Pitch 0.95mm, Lead Span 2.8mm, IPC Medium Density)
footprint MF05A_L (SOT23, 5-Leads, Body 2.9x1.6mm, Pitch 0.95mm, Lead Span 2.8mm, IPC High Density)
footprint MF05A_M (SOT23, 5-Leads, Body 2.9x1.6mm, Pitch 0.95mm, Lead Span 2.8mm, IPC Low Density)
pins: 1 IN (power), 2 GND (power), 3 EN (in), 4 PG (oc), 5 OUT (power)

## LP3988IMF-3.0
designator U?
Micropower, 150mA Ultra Low-Dropout CMOS Voltage Regulator With Power Good; PartNumber: LP3988IMF-3.0; Manufacturer: National Semiconductor; CompType: LDO IC; PackageTopMarking: LFAB*XTT; PowerWise: N; Published: 4-Dec-2008; DatasheetVersion: Aug-2004; PackageVersion: revD, Aug-2008; PackageReference: MF05A; Publisher: Altium Limited; PackageDescription: Molded SOT-23, .115 x .063 x .040 in Body, 5 Lead, .0375 in Pitch; RoHS: O; PinCount: 5; DigiKeyPartNumber: LP3988IMF-3.0CT-ND; ComponentLink1Description: LP3988 Datasheet; ComponentLink1URL: http://www.national.com/ds/LP/LP3988.pdf; ComponentLink2Description: LP3988 Web Page; ComponentLink2URL: http://www.national.com/pf/LP/LP3988.html; ComponentLink3Description: MF05A Package Page; ComponentLink3URL: http://www.national.com/packaging/folders/mf05a.html
footprint MF05A_N (SOT23, 5-Leads, Body 2.9x1.6mm, Pitch 0.95mm, Lead Span 2.8mm, IPC Medium Density)
footprint MF05A_L (SOT23, 5-Leads, Body 2.9x1.6mm, Pitch 0.95mm, Lead Span 2.8mm, IPC High Density)
footprint MF05A_M (SOT23, 5-Leads, Body 2.9x1.6mm, Pitch 0.95mm, Lead Span 2.8mm, IPC Low Density)
pins: 1 IN (power), 2 GND (power), 3 EN (in), 4 PG (oc), 5 OUT (power)

## LP3988IMF-3.3
designator U?
Micropower, 150mA Ultra Low-Dropout CMOS Voltage Regulator With Power Good; PartNumber: LP3988IMF-3.3; Manufacturer: National Semiconductor; CompType: LDO IC; PackageTopMarking: LH5B*XTT; PowerWise: N; Published: 4-Dec-2008; DatasheetVersion: Aug-2004; PackageVersion: revD, Aug-2008; PackageReference: MF05A; Publisher: Altium Limited; PackageDescription: Molded SOT-23, .115 x .063 x .040 in Body, 5 Lead, .0375 in Pitch; RoHS: O; PinCount: 5; DigiKeyPartNumber: LP3988IMF-3.3CT-ND; ComponentLink1Description: LP3988 Datasheet; ComponentLink1URL: http://www.national.com/ds/LP/LP3988.pdf; ComponentLink2Description: LP3988 Web Page; ComponentLink2URL: http://www.national.com/pf/LP/LP3988.html; ComponentLink3Description: MF05A Package Page; ComponentLink3URL: http://www.national.com/packaging/folders/mf05a.html
footprint MF05A_N (SOT23, 5-Leads, Body 2.9x1.6mm, Pitch 0.95mm, Lead Span 2.8mm, IPC Medium Density)
footprint MF05A_L (SOT23, 5-Leads, Body 2.9x1.6mm, Pitch 0.95mm, Lead Span 2.8mm, IPC High Density)
footprint MF05A_M (SOT23, 5-Leads, Body 2.9x1.6mm, Pitch 0.95mm, Lead Span 2.8mm, IPC Low Density)
pins: 1 IN (power), 2 GND (power), 3 EN (in), 4 PG (oc), 5 OUT (power)

## LP3988ITL-1.85
designator U?
Micropower, 150mA Ultra Low-Dropout CMOS Voltage Regulator With Power Good; PartNumber: LP3988ITL-1.85; Manufacturer: National Semiconductor; CompType: LDO IC; PackageTopMarking: XV*I 8; Published: 4-Dec-2008; DatasheetVersion: Aug-2004; PackageVersion: revC, Feb-2005; PackageReference: TLA05AEA; Publisher: Altium Limited; PackageDescription: Thin Micro SMD, 5 Bump (Large), 0.5mm Pitch; RoHS: Y; PinCount: 5; DigiKeyPartNumber: LP3988ITL-1.85CT-ND; ComponentLink1Description: LP3988 Datasheet; ComponentLink1URL: http://www.national.com/ds/LP/LP3988.pdf; ComponentLink2Description: LP3988 Web Page; ComponentLink2URL: http://www.national.com/pf/LP/LP3988.html; ComponentLink3Description: TLA05AEA Package Page; ComponentLink3URL: http://www.national.com/packaging/folders/tla05aea.html
footprint TLA05AEA (Micro SMD, 5-Leads, Body 1.45x1.01mm, Pitch 0.5mm, NSC Recommended)
pins: A1 EN (in), A3 PG (oc), B2 GND (power), C1 OUT (power), C3 IN (power)

## LP3988ITL-2.6
designator U?
Micropower, 150mA Ultra Low-Dropout CMOS Voltage Regulator With Power Good; PartNumber: LP3988ITL-2.6; Manufacturer: National Semiconductor; CompType: LDO IC; PackageTopMarking: XV*I 8; Published: 4-Dec-2008; DatasheetVersion: Aug-2004; PackageVersion: revC, Feb-2005; PackageReference: TLA05AEA; Publisher: Altium Limited; PackageDescription: Thin Micro SMD, 5 Bump (Large), 0.5mm Pitch; RoHS: Y; PinCount: 5; DigiKeyPartNumber: LP3988ITL-2.6CT-ND; ComponentLink1Description: LP3988 Datasheet; ComponentLink1URL: http://www.national.com/ds/LP/LP3988.pdf; ComponentLink2Description: LP3988 Web Page; ComponentLink2URL: http://www.national.com/pf/LP/LP3988.html; ComponentLink3Description: TLA05AEA Package Page; ComponentLink3URL: http://www.national.com/packaging/folders/tla05aea.html
footprint TLA05AEA (Micro SMD, 5-Leads, Body 1.45x1.01mm, Pitch 0.5mm, NSC Recommended)
pins: A1 EN (in), A3 PG (oc), B2 GND (power), C1 OUT (power), C3 IN (power)

## LP3988ITL-2.85
designator U?
Micropower, 150mA Ultra Low-Dropout CMOS Voltage Regulator With Power Good; PartNumber: LP3988ITL-2.85; Manufacturer: National Semiconductor; CompType: LDO IC; PackageTopMarking: XV*I 8; Published: 4-Dec-2008; DatasheetVersion: Aug-2004; PackageVersion: revC, Feb-2005; PackageReference: TLA05AEA; Publisher: Altium Limited; PackageDescription: Thin Micro SMD, 5 Bump (Large), 0.5mm Pitch; RoHS: Y; PinCount: 5; DigiKeyPartNumber: LP3988ITL-2.85CT-ND; ComponentLink1Description: LP3988 Datasheet; ComponentLink1URL: http://www.national.com/ds/LP/LP3988.pdf; ComponentLink2Description: LP3988 Web Page; ComponentLink2URL: http://www.national.com/pf/LP/LP3988.html; ComponentLink3Description: TLA05AEA Package Page; ComponentLink3URL: http://www.national.com/packaging/folders/tla05aea.html
footprint TLA05AEA (Micro SMD, 5-Leads, Body 1.45x1.01mm, Pitch 0.5mm, NSC Recommended)
pins: A1 EN (in), A3 PG (oc), B2 GND (power), C1 OUT (power), C3 IN (power)

## LP3990MF-1.2
designator U?
150mA Linear Voltage Regulator for Digital Applications; PartNumber: LP3990MF-1.2; Manufacturer: National Semiconductor; CompType: LDO IC; PackageTopMarking: SCDB*XTT; PowerWise: N; Published: 4-Dec-2008; DatasheetVersion: Oct-2005; PackageVersion: revD, Aug-2008; PackageReference: MF05A; Publisher: Altium Limited; PackageDescription: Molded SOT-23, .115 x .063 x .040 in Body, 5 Lead, .0375 in Pitch; RoHS: Y; PinCount: 5; DigiKeyPartNumber: LP3990MF-1.2CT-ND; ComponentLink1Description: LP3990 Datasheet; ComponentLink1URL: http://www.national.com/ds/LP/LP3990.pdf; ComponentLink2Description: LP3990 Web Page; ComponentLink2URL: http://www.national.com/pf/LP/LP3990.html; ComponentLink3Description: MF05A Package Page; ComponentLink3URL: http://www.national.com/packaging/folders/mf05a.html
footprint MF05A_N (SOT23, 5-Leads, Body 2.9x1.6mm, Pitch 0.95mm, Lead Span 2.8mm, IPC Medium Density)
footprint MF05A_L (SOT23, 5-Leads, Body 2.9x1.6mm, Pitch 0.95mm, Lead Span 2.8mm, IPC High Density)
footprint MF05A_M (SOT23, 5-Leads, Body 2.9x1.6mm, Pitch 0.95mm, Lead Span 2.8mm, IPC Low Density)
pins: 1 IN (power), 2 GND (power), 3 EN (in), 4 NC, 5 OUT (power)

## LP3990MF-1.5
designator U?
150mA Linear Voltage Regulator for Digital Applications; PartNumber: LP3990MF-1.5; Manufacturer: National Semiconductor; CompType: LDO IC; PackageTopMarking: SCEB*XTT; Published: 4-Dec-2008; DatasheetVersion: Oct-2005; PackageVersion: revD, Aug-2008; PackageReference: MF05A; Publisher: Altium Limited; PackageDescription: Molded SOT-23, .115 x .063 x .040 in Body, 5 Lead, .0375 in Pitch; RoHS: Y; PinCount: 5; DigiKeyPartNumber: LP3990MF-1.5CT-ND; ComponentLink1Description: LP3990 Datasheet; ComponentLink1URL: http://www.national.com/ds/LP/LP3990.pdf; ComponentLink2Description: LP3990 Web Page; ComponentLink2URL: http://www.national.com/pf/LP/LP3990.html; ComponentLink3Description: MF05A Package Page; ComponentLink3URL: http://www.national.com/packaging/folders/mf05a.html
footprint MF05A_N (SOT23, 5-Leads, Body 2.9x1.6mm, Pitch 0.95mm, Lead Span 2.8mm, IPC Medium Density)
footprint MF05A_L (SOT23, 5-Leads, Body 2.9x1.6mm, Pitch 0.95mm, Lead Span 2.8mm, IPC High Density)
footprint MF05A_M (SOT23, 5-Leads, Body 2.9x1.6mm, Pitch 0.95mm, Lead Span 2.8mm, IPC Low Density)
pins: 1 IN (power), 2 GND (power), 3 EN (in), 4 NC, 5 OUT (power)

## LP3990MF-1.8
designator U?
150mA Linear Voltage Regulator for Digital Applications; PartNumber: LP3990MF-1.8; Manufacturer: National Semiconductor; CompType: LDO IC; PackageTopMarking: SCFB*XTT; PowerWise: N; Published: 4-Dec-2008; DatasheetVersion: Oct-2005; PackageVersion: revD, Aug-2008; PackageReference: MF05A; Publisher: Altium Limited; PackageDescription: Molded SOT-23, .115 x .063 x .040 in Body, 5 Lead, .0375 in Pitch; RoHS: Y; PinCount: 5; DigiKeyPartNumber: LP3990MF-1.8CT-ND; ComponentLink1Description: LP3990 Datasheet; ComponentLink1URL: http://www.national.com/ds/LP/LP3990.pdf; ComponentLink2Description: LP3990 Web Page; ComponentLink2URL: http://www.national.com/pf/LP/LP3990.html; ComponentLink3Description: MF05A Package Page; ComponentLink3URL: http://www.national.com/packaging/folders/mf05a.html
footprint MF05A_N (SOT23, 5-Leads, Body 2.9x1.6mm, Pitch 0.95mm, Lead Span 2.8mm, IPC Medium Density)
footprint MF05A_L (SOT23, 5-Leads, Body 2.9x1.6mm, Pitch 0.95mm, Lead Span 2.8mm, IPC High Density)
footprint MF05A_M (SOT23, 5-Leads, Body 2.9x1.6mm, Pitch 0.95mm, Lead Span 2.8mm, IPC Low Density)
pins: 1 IN (power), 2 GND (power), 3 EN (in), 4 NC, 5 OUT (power)

## LP3990MF-2.5
designator U?
150mA Linear Voltage Regulator for Digital Applications; PartNumber: LP3990MF-2.5; Manufacturer: National Semiconductor; CompType: LDO IC; PackageTopMarking: SCJB*XTT; PowerWise: N; Published: 4-Dec-2008; DatasheetVersion: Oct-2005; PackageVersion: revD, Aug-2008; PackageReference: MF05A; Publisher: Altium Limited; PackageDescription: Molded SOT-23, .115 x .063 x .040 in Body, 5 Lead, .0375 in Pitch; RoHS: Y; PinCount: 5; DigiKeyPartNumber: LP3990MF-2.5CT-ND; ComponentLink1Description: LP3990 Datasheet; ComponentLink1URL: http://www.national.com/ds/LP/LP3990.pdf; ComponentLink2Description: LP3990 Web Page; ComponentLink2URL: http://www.national.com/pf/LP/LP3990.html; ComponentLink3Description: MF05A Package Page; ComponentLink3URL: http://www.national.com/packaging/folders/mf05a.html
footprint MF05A_N (SOT23, 5-Leads, Body 2.9x1.6mm, Pitch 0.95mm, Lead Span 2.8mm, IPC Medium Density)
footprint MF05A_L (SOT23, 5-Leads, Body 2.9x1.6mm, Pitch 0.95mm, Lead Span 2.8mm, IPC High Density)
footprint MF05A_M (SOT23, 5-Leads, Body 2.9x1.6mm, Pitch 0.95mm, Lead Span 2.8mm, IPC Low Density)
pins: 1 IN (power), 2 GND (power), 3 EN (in), 4 NC, 5 OUT (power)

## LP3990MF-2.8
designator U?
150mA Linear Voltage Regulator for Digital Applications; PartNumber: LP3990MF-2.8; Manufacturer: National Semiconductor; CompType: LDO IC; PackageTopMarking: SCKB*XTT; PowerWise: N; Published: 4-Dec-2008; DatasheetVersion: Oct-2005; PackageVersion: revD, Aug-2008; PackageReference: MF05A; Publisher: Altium Limited; PackageDescription: Molded SOT-23, .115 x .063 x .040 in Body, 5 Lead, .0375 in Pitch; RoHS: Y; PinCount: 5; DigiKeyPartNumber: LP3990MF-2.8CT-ND; ComponentLink1Description: LP3990 Datasheet; ComponentLink1URL: http://www.national.com/ds/LP/LP3990.pdf; ComponentLink2Description: LP3990 Web Page; ComponentLink2URL: http://www.national.com/pf/LP/LP3990.html; ComponentLink3Description: MF05A Package Page; ComponentLink3URL: http://www.national.com/packaging/folders/mf05a.html
footprint MF05A_N (SOT23, 5-Leads, Body 2.9x1.6mm, Pitch 0.95mm, Lead Span 2.8mm, IPC Medium Density)
footprint MF05A_L (SOT23, 5-Leads, Body 2.9x1.6mm, Pitch 0.95mm, Lead Span 2.8mm, IPC High Density)
footprint MF05A_M (SOT23, 5-Leads, Body 2.9x1.6mm, Pitch 0.95mm, Lead Span 2.8mm, IPC Low Density)
pins: 1 IN (power), 2 GND (power), 3 EN (in), 4 NC, 5 OUT (power)

## LP3990MF-3.3
designator U?
150mA Linear Voltage Regulator for Digital Applications; PartNumber: LP3990MF-3.3; Manufacturer: National Semiconductor; CompType: LDO IC; PackageTopMarking: SCLB*XTT; PowerWise: N; Published: 4-Dec-2008; DatasheetVersion: Oct-2005; PackageVersion: revD, Aug-2008; PackageReference: MF05A; Publisher: Altium Limited; PackageDescription: Molded SOT-23, .115 x .063 x .040 in Body, 5 Lead, .0375 in Pitch; RoHS: Y; PinCount: 5; DigiKeyPartNumber: LP3990MF-3.3CT-ND; ComponentLink1Description: LP3990 Datasheet; ComponentLink1URL: http://www.national.com/ds/LP/LP3990.pdf; ComponentLink2Description: LP3990 Web Page; ComponentLink2URL: http://www.national.com/pf/LP/LP3990.html; ComponentLink3Description: MF05A Package Page; ComponentLink3URL: http://www.national.com/packaging/folders/mf05a.html
footprint MF05A_N (SOT23, 5-Leads, Body 2.9x1.6mm, Pitch 0.95mm, Lead Span 2.8mm, IPC Medium Density)
footprint MF05A_L (SOT23, 5-Leads, Body 2.9x1.6mm, Pitch 0.95mm, Lead Span 2.8mm, IPC High Density)
footprint MF05A_M (SOT23, 5-Leads, Body 2.9x1.6mm, Pitch 0.95mm, Lead Span 2.8mm, IPC Low Density)
pins: 1 IN (power), 2 GND (power), 3 EN (in), 4 NC, 5 OUT (power)

## LP3990SD-0.8
designator U?
150mA Linear Voltage Regulator for Digital Applications; PartNumber: LP3990SD-0.8; Manufacturer: National Semiconductor; CompType: LDO IC; PackageTopMarking: ZXYTT*L085B; Published: 4-Dec-2008; DatasheetVersion: Oct-2005; PackageVersion: revA, Jul-2003; PackageReference: SDE06A; Publisher: Altium Limited; PackageDescription: LLP, Plastic, Dual, 3 x 3 x 0.8mm Body, 6 Lead, 0.95mm Pitch, No Pullback; RoHS: Y; PinCount: 6; DigiKeyPartNumber: LP3990SD-0.8CT-ND; ComponentLink1Description: LP3990 Datasheet; ComponentLink1URL: http://www.national.com/ds/LP/LP3990.pdf; ComponentLink2Description: LP3990 Web Page; ComponentLink2URL: http://www.national.com/pf/LP/LP3990.html; ComponentLink3Description: SDE06A Package Page; ComponentLink3URL: http://www.national.com/packaging/folders/sde06a.html
footprint SDE06A_full (SON, 6-Leads, Body 3x3 mm, Pitch 0.95mm, Full Paste, NSC Recommended)
footprint SDE06A_quad (SON, 6-Leads, Body 3x3 mm, Pitch 0.95mm, Quad Paste, NSC Recommended)
pins: 1 OUT (power), 2 GND (power), 3 NC, 4 NC, 5 EN (in), 6 IN (power), 7 DAP (power)

## LP3990SD-1.2
designator U?
150mA Linear Voltage Regulator for Digital Applications; PartNumber: LP3990SD-1.2; Manufacturer: National Semiconductor; CompType: LDO IC; PackageTopMarking: ZXYTT*L086B; PowerWise: N; Published: 4-Dec-2008; DatasheetVersion: Oct-2005; PackageVersion: revA, Jul-2003; PackageReference: SDE06A; Publisher: Altium Limited; PackageDescription: LLP, Plastic, Dual, 3 x 3 x 0.8mm Body, 6 Lead, 0.95mm Pitch, No Pullback; RoHS: Y; PinCount: 6; DigiKeyPartNumber: LP3990SD-1.2CT-ND; ComponentLink1Description: LP3990 Datasheet; ComponentLink1URL: http://www.national.com/ds/LP/LP3990.pdf; ComponentLink2Description: LP3990 Web Page; ComponentLink2URL: http://www.national.com/pf/LP/LP3990.html; ComponentLink3Description: SDE06A Package Page; ComponentLink3URL: http://www.national.com/packaging/folders/sde06a.html
footprint SDE06A_full (SON, 6-Leads, Body 3x3 mm, Pitch 0.95mm, Full Paste, NSC Recommended)
footprint SDE06A_quad (SON, 6-Leads, Body 3x3 mm, Pitch 0.95mm, Quad Paste, NSC Recommended)
pins: 1 OUT (power), 2 GND (power), 3 NC, 4 NC, 5 EN (in), 6 IN (power), 7 DAP (power)

## LP3990SD-1.5
designator U?
150mA Linear Voltage Regulator for Digital Applications; PartNumber: LP3990SD-1.5; Manufacturer: National Semiconductor; CompType: LDO IC; PackageTopMarking: ZXYTT*L087B; PowerWise: N; Published: 4-Dec-2008; DatasheetVersion: Oct-2005; PackageVersion: revA, Jul-2003; PackageReference: SDE06A; Publisher: Altium Limited; PackageDescription: LLP, Plastic, Dual, 3 x 3 x 0.8mm Body, 6 Lead, 0.95mm Pitch, No Pullback; RoHS: Y; PinCount: 6; DigiKeyPartNumber: LP3990SD-1.5CT-ND; ComponentLink1Description: LP3990 Datasheet; ComponentLink1URL: http://www.national.com/ds/LP/LP3990.pdf; ComponentLink2Description: LP3990 Web Page; ComponentLink2URL: http://www.national.com/pf/LP/LP3990.html; ComponentLink3Description: SDE06A Package Page; ComponentLink3URL: http://www.national.com/packaging/folders/sde06a.html
footprint SDE06A_full (SON, 6-Leads, Body 3x3 mm, Pitch 0.95mm, Full Paste, NSC Recommended)
footprint SDE06A_quad (SON, 6-Leads, Body 3x3 mm, Pitch 0.95mm, Quad Paste, NSC Recommended)
pins: 1 OUT (power), 2 GND (power), 3 NC, 4 NC, 5 EN (in), 6 IN (power), 7 DAP (power)

## LP3990SD-1.8
designator U?
150mA Linear Voltage Regulator for Digital Applications; PartNumber: LP3990SD-1.8; Manufacturer: National Semiconductor; CompType: LDO IC; PackageTopMarking: ZXYTT*L088B; PowerWise: N; Published: 4-Dec-2008; DatasheetVersion: Oct-2005; PackageVersion: revA, Jul-2003; PackageReference: SDE06A; Publisher: Altium Limited; PackageDescription: LLP, Plastic, Dual, 3 x 3 x 0.8mm Body, 6 Lead, 0.95mm Pitch, No Pullback; RoHS: Y; PinCount: 6; DigiKeyPartNumber: LP3990SD-1.8CT-ND; ComponentLink1Description: LP3990 Datasheet; ComponentLink1URL: http://www.national.com/ds/LP/LP3990.pdf; ComponentLink2Description: LP3990 Web Page; ComponentLink2URL: http://www.national.com/pf/LP/LP3990.html; ComponentLink3Description: SDE06A Package Page; ComponentLink3URL: http://www.national.com/packaging/folders/sde06a.html
footprint SDE06A_full (SON, 6-Leads, Body 3x3 mm, Pitch 0.95mm, Full Paste, NSC Recommended)
footprint SDE06A_quad (SON, 6-Leads, Body 3x3 mm, Pitch 0.95mm, Quad Paste, NSC Recommended)
pins: 1 OUT (power), 2 GND (power), 3 NC, 4 NC, 5 EN (in), 6 IN (power), 7 DAP (power)

## LP3990SD-1.35
designator U?
150mA Linear Voltage Regulator for Digital Applications; PartNumber: LP3990SD-1.35; Manufacturer: National Semiconductor; CompType: LDO IC; PackageTopMarking: ZXYTT*L150B; Published: 4-Dec-2008; DatasheetVersion: Oct-2005; PackageVersion: revA, Jul-2003; PackageReference: SDE06A; Publisher: Altium Limited; PackageDescription: LLP, Plastic, Dual, 3 x 3 x 0.8mm Body, 6 Lead, 0.95mm Pitch, No Pullback; RoHS: Y; PinCount: 6; DigiKeyPartNumber: LP3990SD-1.35CT-ND; ComponentLink1Description: LP3990 Datasheet; ComponentLink1URL: http://www.national.com/ds/LP/LP3990.pdf; ComponentLink2Description: LP3990 Web Page; ComponentLink2URL: http://www.national.com/pf/LP/LP3990.html; ComponentLink3Description: SDE06A Package Page; ComponentLink3URL: http://www.national.com/packaging/folders/sde06a.html
footprint SDE06A_full (SON, 6-Leads, Body 3x3 mm, Pitch 0.95mm, Full Paste, NSC Recommended)
footprint SDE06A_quad (SON, 6-Leads, Body 3x3 mm, Pitch 0.95mm, Quad Paste, NSC Recommended)
pins: 1 OUT (power), 2 GND (power), 3 NC, 4 NC, 5 EN (in), 6 IN (power), 7 DAP (power)

## LP3990SD-2.5
designator U?
150mA Linear Voltage Regulator for Digital Applications; PartNumber: LP3990SD-2.5; Manufacturer: National Semiconductor; CompType: LDO IC; PackageTopMarking: ZXYTT*L090B; Published: 4-Dec-2008; DatasheetVersion: Oct-2005; PackageVersion: revA, Jul-2003; PackageReference: SDE06A; Publisher: Altium Limited; PackageDescription: LLP, Plastic, Dual, 3 x 3 x 0.8mm Body, 6 Lead, 0.95mm Pitch, No Pullback; RoHS: Y; PinCount: 6; DigiKeyPartNumber: LP3990SD-2.5CT-ND; ComponentLink1Description: LP3990 Datasheet; ComponentLink1URL: http://www.national.com/ds/LP/LP3990.pdf; ComponentLink2Description: LP3990 Web Page; ComponentLink2URL: http://www.national.com/pf/LP/LP3990.html; ComponentLink3Description: SDE06A Package Page; ComponentLink3URL: http://www.national.com/packaging/folders/sde06a.html
footprint SDE06A_full (SON, 6-Leads, Body 3x3 mm, Pitch 0.95mm, Full Paste, NSC Recommended)
footprint SDE06A_quad (SON, 6-Leads, Body 3x3 mm, Pitch 0.95mm, Quad Paste, NSC Recommended)
pins: 1 OUT (power), 2 GND (power), 3 NC, 4 NC, 5 EN (in), 6 IN (power), 7 DAP (power)

## LP3990SD-2.8
designator U?
150mA Linear Voltage Regulator for Digital Applications; PartNumber: LP3990SD-2.8; Manufacturer: National Semiconductor; CompType: LDO IC; PackageTopMarking: ZXYTT*L091B; Published: 4-Dec-2008; DatasheetVersion: Oct-2005; PackageVersion: revA, Jul-2003; PackageReference: SDE06A; Publisher: Altium Limited; PackageDescription: LLP, Plastic, Dual, 3 x 3 x 0.8mm Body, 6 Lead, 0.95mm Pitch, No Pullback; RoHS: Y; PinCount: 6; DigiKeyPartNumber: LP3990SD-2.8CT-ND; ComponentLink1Description: LP3990 Datasheet; ComponentLink1URL: http://www.national.com/ds/LP/LP3990.pdf; ComponentLink2Description: LP3990 Web Page; ComponentLink2URL: http://www.national.com/pf/LP/LP3990.html; ComponentLink3Description: SDE06A Package Page; ComponentLink3URL: http://www.national.com/packaging/folders/sde06a.html
footprint SDE06A_full (SON, 6-Leads, Body 3x3 mm, Pitch 0.95mm, Full Paste, NSC Recommended)
footprint SDE06A_quad (SON, 6-Leads, Body 3x3 mm, Pitch 0.95mm, Quad Paste, NSC Recommended)
pins: 1 OUT (power), 2 GND (power), 3 NC, 4 NC, 5 EN (in), 6 IN (power), 7 DAP (power)

## LP3990TL-0.8
designator U?
150mA Linear Voltage Regulator for Digital Applications; PartNumber: LP3990TL-0.8; Manufacturer: National Semiconductor; CompType: LDO IC; PackageTopMarking: X*I; Published: 4-Dec-2008; DatasheetVersion: Oct-2005; PackageVersion: revD, Mar-2005; PackageReference: TLA04AMA; Publisher: Altium Limited; PackageDescription: Thin Micro SMD, 4 Bump (Large), 0.5mm Pitch; RoHS: Y; PinCount: 4; DigiKeyPartNumber: LP3990TL-0.8CT-ND; Code_JEDEC: MO-211-BA; ComponentLink1Description: LP3990 Datasheet; ComponentLink1URL: http://www.national.com/ds/LP/LP3990.pdf; ComponentLink2Description: LP3990 Web Page; ComponentLink2URL: http://www.national.com/pf/LP/LP3990.html; ComponentLink3Description: TLA04AMA Package Page; ComponentLink3URL: http://www.national.com/packaging/folders/tla04ama.html
footprint TLA04AMA (Micro SMD, 4-Leads, Body 1.29x1.01mm, Pitch 0.5mm, NSC Recommended)
pins: A1 GND (power), A2 EN (in), B1 OUT (power), B2 IN (power)

## LP3990TL-1.2
designator U?
150mA Linear Voltage Regulator for Digital Applications; PartNumber: LP3990TL-1.2; Manufacturer: National Semiconductor; CompType: LDO IC; PackageTopMarking: X*I; Published: 4-Dec-2008; DatasheetVersion: Oct-2005; PackageVersion: revD, Mar-2005; PackageReference: TLA04AMA; Publisher: Altium Limited; PackageDescription: Thin Micro SMD, 4 Bump (Large), 0.5mm Pitch; RoHS: Y; PinCount: 4; DigiKeyPartNumber: LP3990TL-1.2CT-ND; Code_JEDEC: MO-211-BA; ComponentLink1Description: LP3990 Datasheet; ComponentLink1URL: http://www.national.com/ds/LP/LP3990.pdf; ComponentLink2Description: LP3990 Web Page; ComponentLink2URL: http://www.national.com/pf/LP/LP3990.html; ComponentLink3Description: TLA04AMA Package Page; ComponentLink3URL: http://www.national.com/packaging/folders/tla04ama.html
footprint TLA04AMA (Micro SMD, 4-Leads, Body 1.29x1.01mm, Pitch 0.5mm, NSC Recommended)
pins: A1 GND (power), A2 EN (in), B1 OUT (power), B2 IN (power)